# Altium schematic symbol library OSC_LF-SPX.Schlib: 1 symbol
Pins are listed as number, name and electrical type; pins without a type are passive.

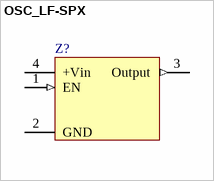
[diagram p0: symbol OSC_LF-SPX]

## OSC_LF-SPX
designator Z?
Crystal Oscillator, C-MAC; Package Information: Latest Revision: ver11.0, Feb-2003; Configures: APEX II, APEX 20K, Mercury, ACEX 1K & FLEX Devices; Code - JEDEC: MS-026-ABA; Published: 17-Sep-2003; Datasheet: Latest Revision: ver1.1, Oct-2003; Package Reference: TQFP32; Publisher: Altium Limited
footprint OSC_SMD_01
pins: 1 EN (in), 2 GND (power), 3 Output (out), 4 +Vin (power)